# Altium schematic symbol library OnSemi.SchLib: 1 symbol
Pins are listed as number, name and electrical type; pins without a type are passive.

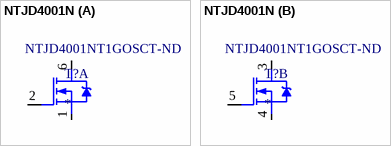
[diagram p0: symbol NTJD4001N]

## NTJD4001N
designator T?  Supplier Part Number 1: NTJD4001NT1GOSCT-ND
Small Signal MOSFET 30V, 250mA, Dual N-Channel, SC-88; Supplier 1: Digi-Key
footprint SOT65P210X110-6L (SOT23, 6-Leads, Body 2.00x2.10mm, Pitch 0.65mm, IPC High Density)
part A pins: 1 S1, 2 G1, 6 D1
part B pins: 3 D2, 4 S2, 5 G2